# Altium schematic symbol library ADuM1300.Schlib: 1 symbol
Pins are listed as number, name and electrical type; pins without a type are passive.

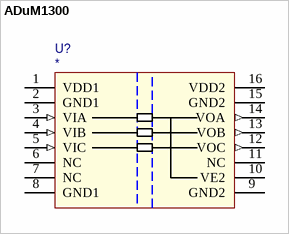
[diagram p0: symbol ADuM1300]

## ADuM1300
designator U?
pins: 1 VDD1 (power), 2 GND1 (power), 3 VIA (in), 4 VIB (in), 5 VIC (in), 6 NC, 7 NC, 8 GND1 (power), 9 GND2 (power), 10 VE2, 11 NC, 12 VOC (out), 13 VOB (out), 14 VOA (out), 15 GND2 (power), 16 VDD2 (power)